# EAGLE library part CN-2020-06 (library Header and Connector)
Connector 2020, 6 Ways
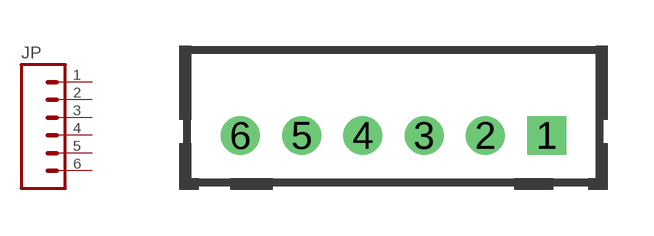
[diagram p19: symbol with the pads of CN-2020-06; footprint CN-2020-06]

Designator prefix JP

## CN-2020-06 (CYTRON-PC: CN-2020-06; DESC: 2020 Connector 6 Ways SMD; MPN: 2020; VALUE: 6 Ways)  [CN-2020-06]
1  1  pas
2  2  pas
3  3  pas
4  4  pas
5  5  pas
6  6  pas

## Footprint CN-2020-06 (pad centres in mm)
drill 0.762 pad 1.27 square: 1 5,0
drill 0.762 pad 1.27: 2 3,0; 3 1,0; 4 -1,0; 5 -3,0; 6 -5,0